# EAGLE library part BTN8962TA (library useful-infineon)
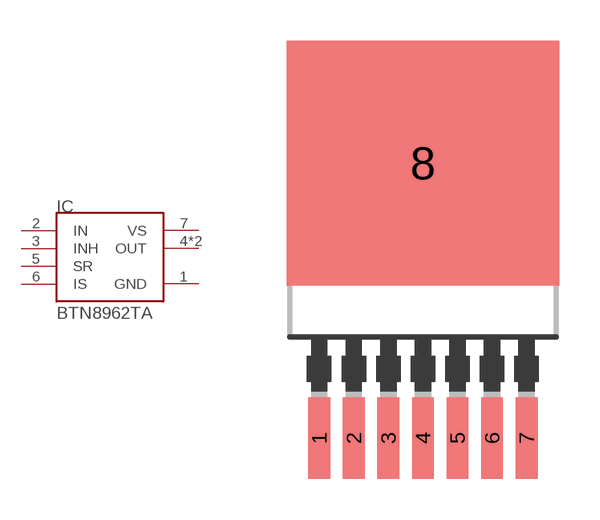
[diagram p0: symbol with the pads of PG-TO263-7-1; footprint PG-TO263-7-1]

Designator prefix IC

## BTN8962TA  [PG-TO263-7-1]
1  GND
2  IN
3  INH
4  OUT
5  SR
6  IS
7  VS
8  OUT

## Footprint PG-TO263-7-1 (pad centres in mm)
smd 0.8 x 3: 1 -3.81,-9.207; 2 -2.54,-9.207; 3 -1.27,-9.207; 4 0,-9.207; 5 1.27,-9.207; 6 2.54,-9.207; 7 3.81,-9.207
smd 10 x 9: 8 0,0.895